# Altium integrated library BSPO.IntLib: 236 symbols (part 2 of 2)

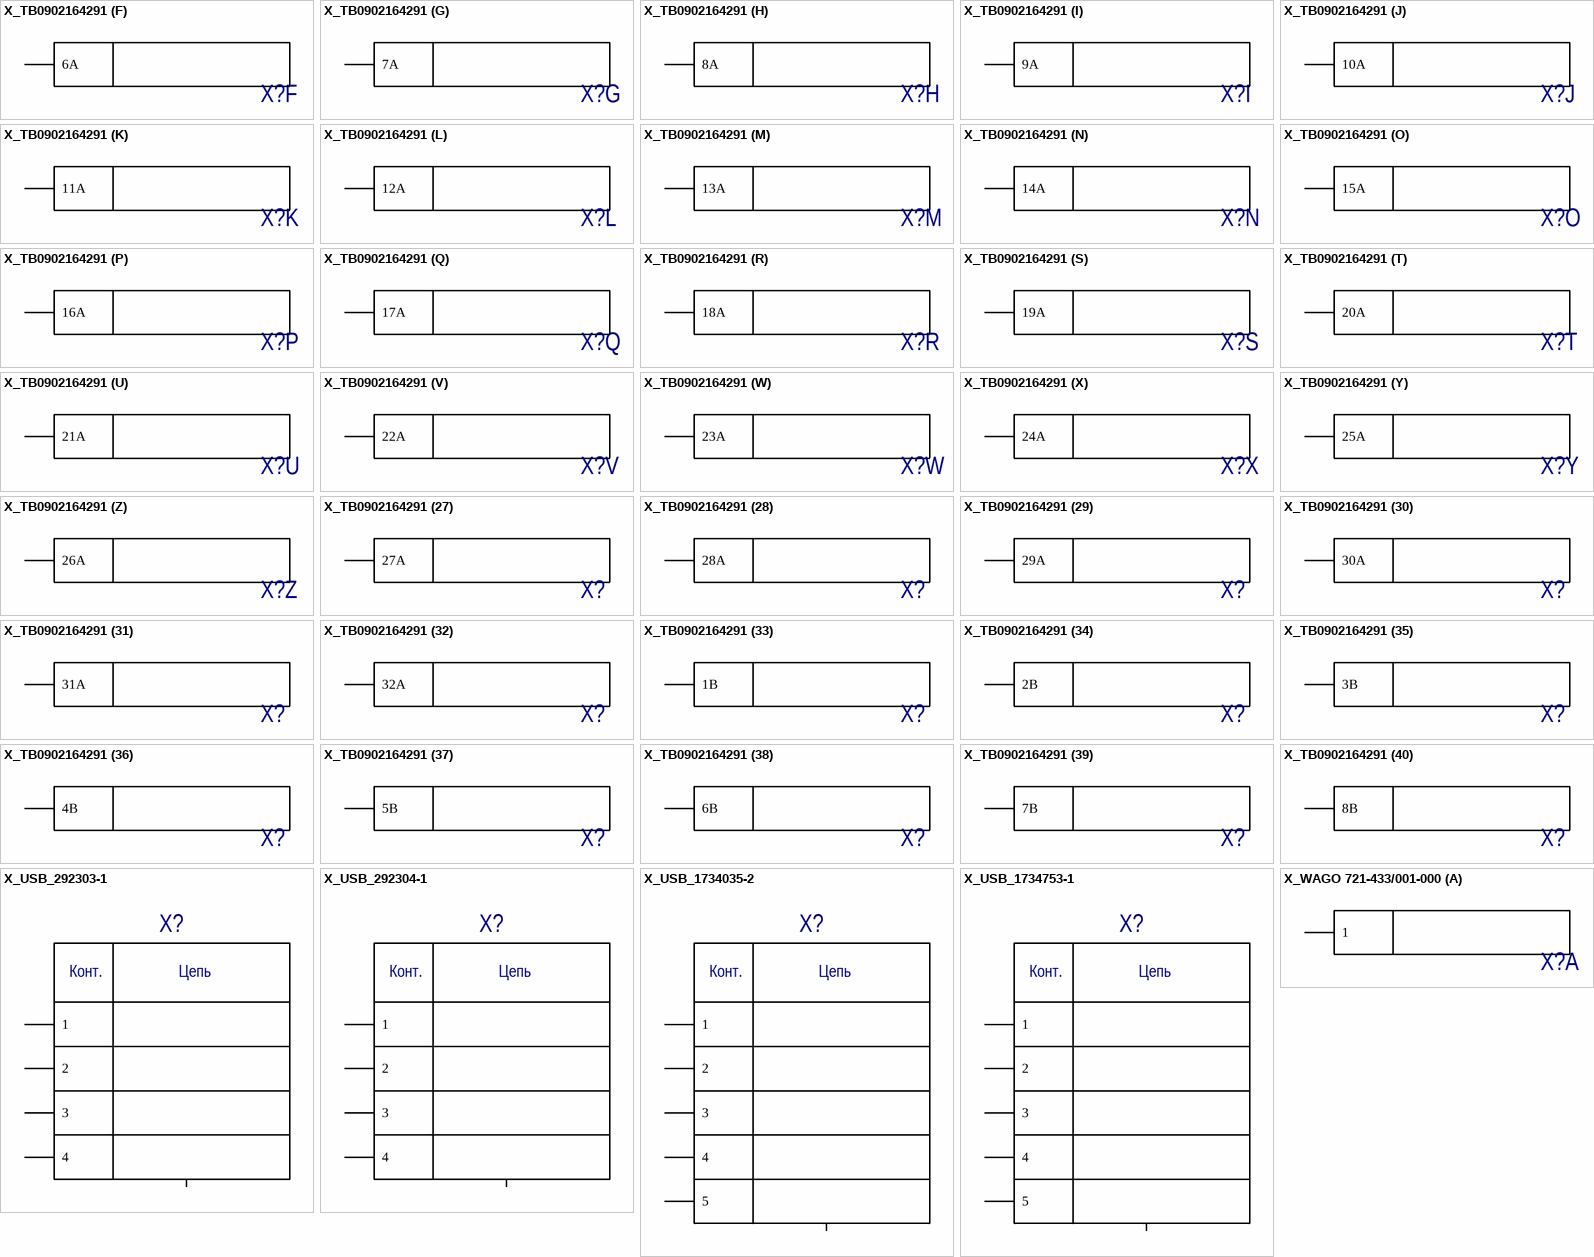
[diagram p23: symbols X_TB0902164291 to X_WAGO 721-433/001-000]

## X_TB0902164291
designator X?  (value not drawn)
Value: *
footprint DIN41612_64R_MAIL_X_TB0902164291(Primary)
part A pins: 1A
part B pins: 2A
part C pins: 3A
part D pins: 4A
part E pins: 5A
part F pins: 6A
part G pins: 7A
part H pins: 8A
part I pins: 9A
part J pins: 10A
part K pins: 11A
part L pins: 12A
part M pins: 13A
part N pins: 14A
part O pins: 15A
part P pins: 16A
part Q pins: 17A
part R pins: 18A
part S pins: 19A
part T pins: 20A
part U pins: 21A
part V pins: 22A
part W pins: 23A
part X pins: 24A
part Y pins: 25A
part Z pins: 26A
part 27 pins: 27A
part 28 pins: 28A
part 29 pins: 29A
part 30 pins: 30A
part 31 pins: 31A
part 32 pins: 32A
part 33 pins: 1B
part 34 pins: 2B
part 35 pins: 3B
part 36 pins: 4B
part 37 pins: 5B
part 38 pins: 6B
part 39 pins: 7B
part 40 pins: 8B
part 41 pins: 9B
part 42 pins: 10B
part 43 pins: 11B
part 44 pins: 12B
part 45 pins: 13B
part 46 pins: 14B
part 47 pins: 15B
part 48 pins: 16B
part 49 pins: 17B
part 50 pins: 18B
part 51 pins: 19B
part 52 pins: 20B
part 53 pins: 21B
part 54 pins: 22B
part 55 pins: 23B
part 56 pins: 24B
part 57 pins: 25B
part 58 pins: 26B
part 59 pins: 27B
part 60 pins: 28B
part 61 pins: 29B
part 62 pins: 30B
part 63 pins: 31B
part 64 pins: 32B
part 65 text: Конт.; Цепь

## X_USB_292303-1
designator X?  (value not drawn)
Value: *
footprint USB_TYPE_A
pins: 1, 2, 3, 4, 5
text: Конт.; Цепь

## X_USB_292304-1
designator X?  (value not drawn)
Value: *
footprint USB_TYPE_B
pins: 1, 2, 3, 4, 5, 6 5 hidden
text: Конт.; Цепь

## X_USB_1734035-2
designator X?  (value not drawn)
Value: *
footprint USB_1734753-1_3
pins: 1, 2, 3, 4, 5, 6, 7 6 hidden, 8 6 hidden
text: Конт.; Цепь

## X_USB_1734753-1
designator X?  (value not drawn)
Value: *
footprint USB_1734753-1_3
pins: 1, 2, 3, 4, 5, 6, 7 6 hidden, 8 6 hidden
text: Конт.; Цепь

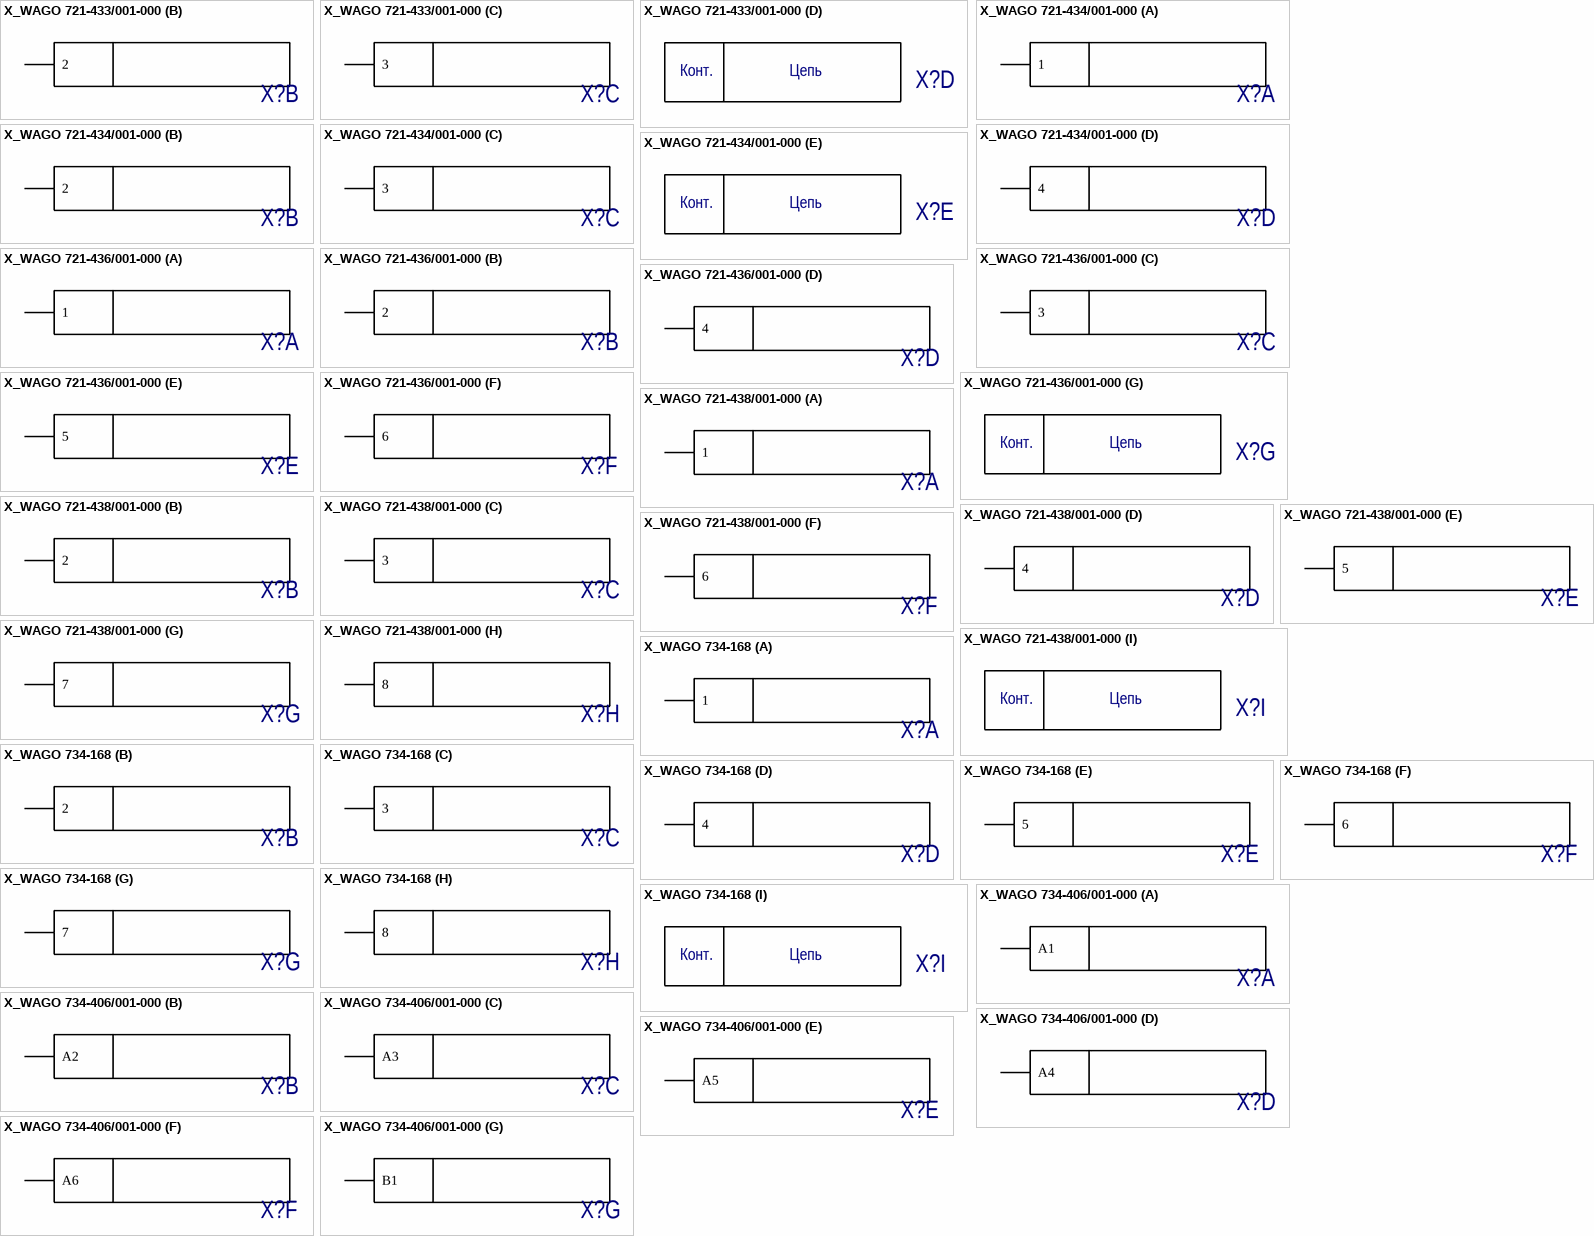
[diagram p24: symbols X_WAGO 721-433/001-000 to X_WAGO 734-406/001-000]

## X_WAGO 721-433/001-000
designator X?  (value not drawn)
Value: *
footprint WAGO 721-433/001-000
part A pins: 1
part B pins: 2
part C pins: 3
part D text: Конт.; Цепь

## X_WAGO 721-434/001-000
designator X?  (value not drawn)
Value: *
footprint WAGO 721-434/001-000
part A pins: 1
part B pins: 2
part C pins: 3
part D pins: 4
part E text: Конт.; Цепь

## X_WAGO 721-436/001-000
designator X?  (value not drawn)
Value: *
footprint WAGO 721-436/001-000
part A pins: 1
part B pins: 2
part C pins: 3
part D pins: 4
part E pins: 5
part F pins: 6
part G text: Конт.; Цепь

## X_WAGO 721-438/001-000
designator X?  (value not drawn)
Value: *
footprint WAGO 721-438/001-000
part A pins: 1
part B pins: 2
part C pins: 3
part D pins: 4
part E pins: 5
part F pins: 6
part G pins: 7
part H pins: 8
part I text: Конт.; Цепь

## X_WAGO 734-168
designator X?  (value not drawn)
Value: *
footprint WAGO 734-168
part A pins: 1
part B pins: 2
part C pins: 3
part D pins: 4
part E pins: 5
part F pins: 6
part G pins: 7
part H pins: 8
part I text: Конт.; Цепь

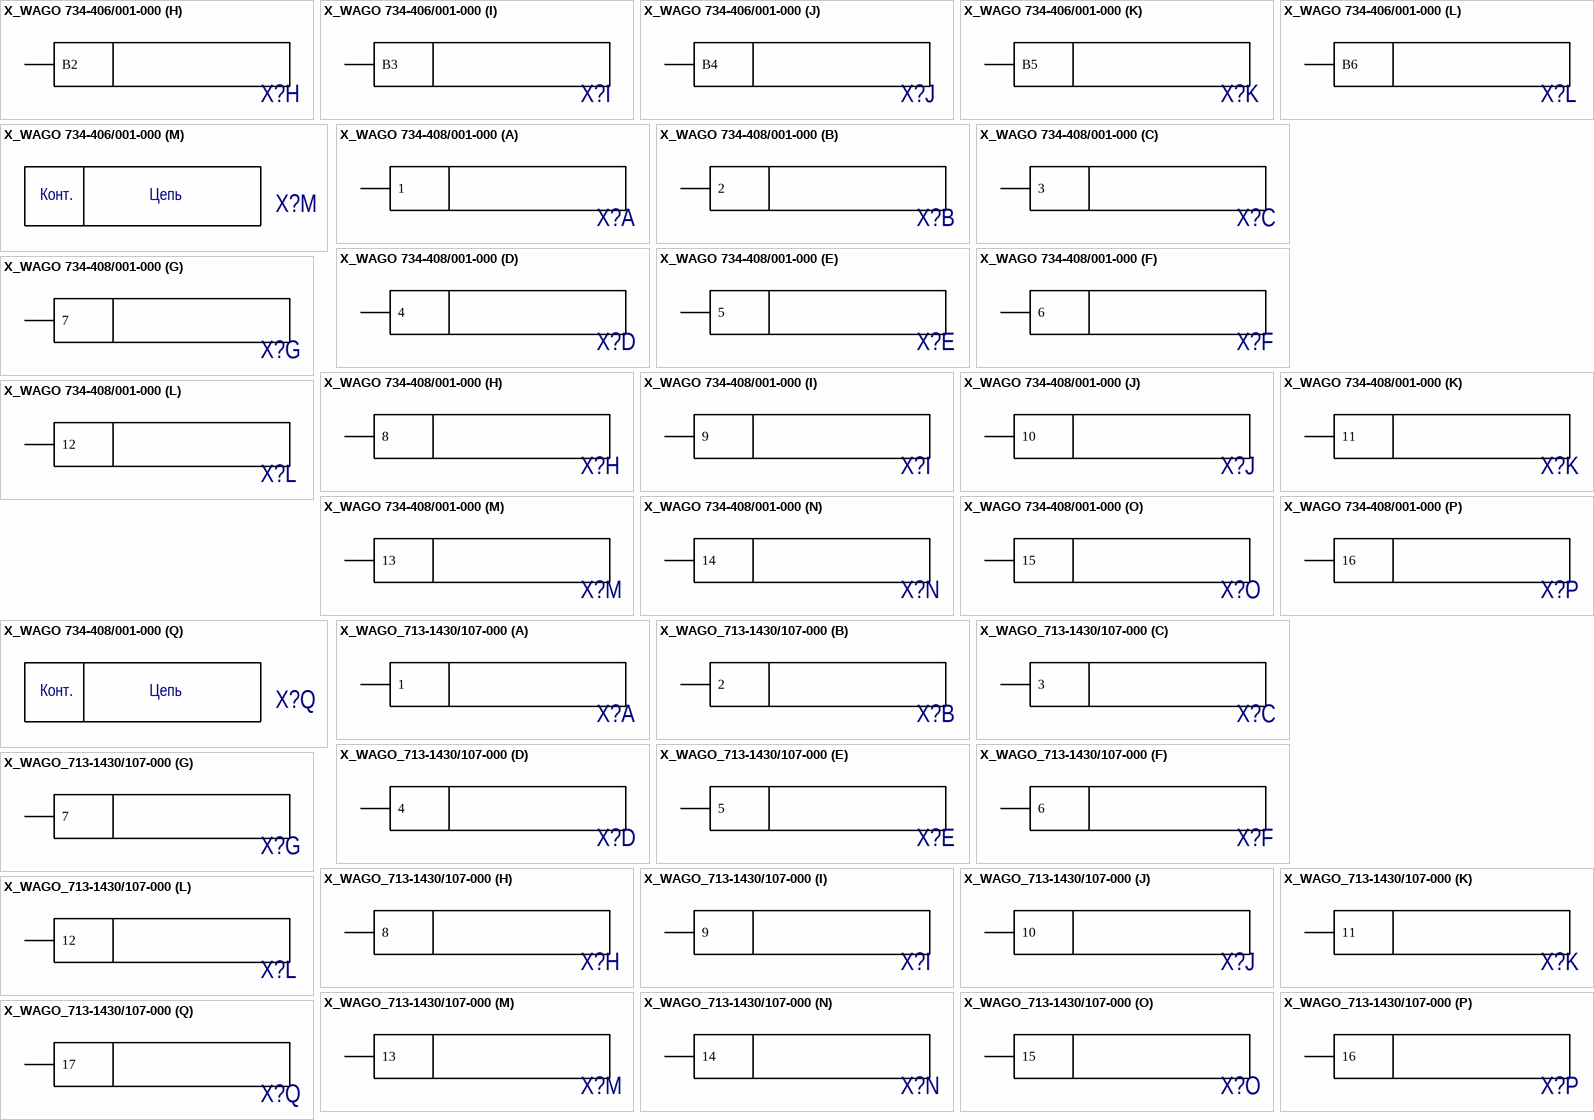
[diagram p25: symbols X_WAGO 734-406/001-000 to X_WAGO_713-1430/107-000]

## X_WAGO 734-406/001-000
designator X?  (value not drawn)
Value: *
footprint WAGO 734-406/001-000
part A pins: 1 A1
part B pins: 2 A2
part C pins: 3 A3
part D pins: 4 A4
part E pins: 5 A5
part F pins: 6 A6
part G pins: 7 B1
part H pins: 8 B2
part I pins: 9 B3
part J pins: 10 B4
part K pins: 11 B5
part L pins: 12 B6
part M text: Конт.; Цепь

## X_WAGO 734-408/001-000
designator X?  (value not drawn)
Value: *
footprint WAGO 734-408/001-000
part A pins: 1
part B pins: 2
part C pins: 3
part D pins: 4
part E pins: 5
part F pins: 6
part G pins: 7
part H pins: 8
part I pins: 9
part J pins: 10
part K pins: 11
part L pins: 12
part M pins: 13
part N pins: 14
part O pins: 15
part P pins: 16
part Q text: Конт.; Цепь

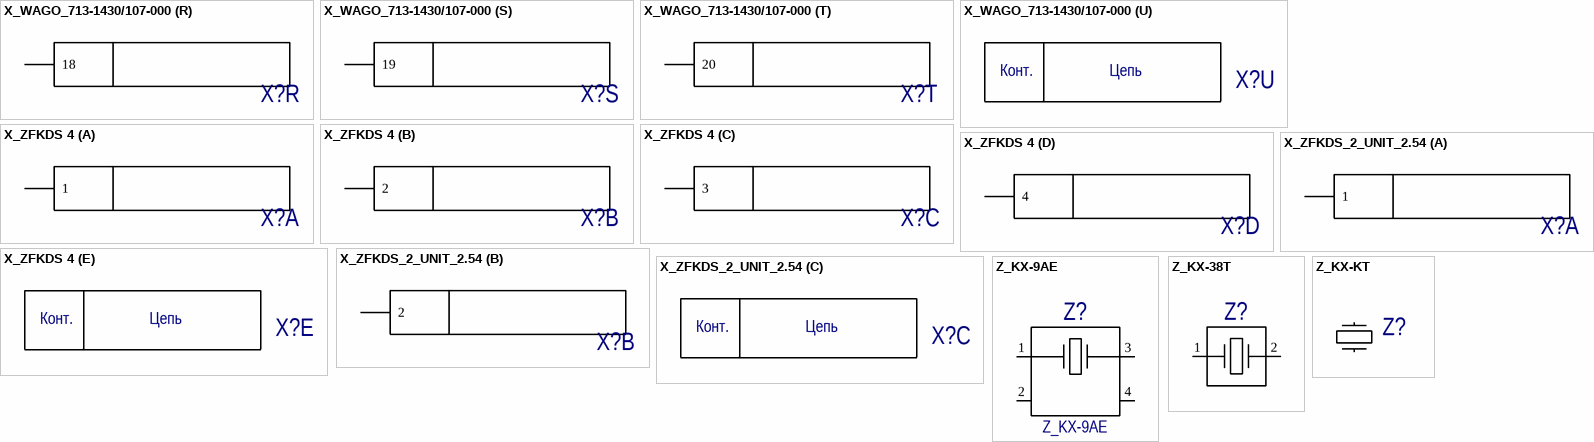
[diagram p26: symbols X_WAGO_713-1430/107-000 to Z_KX-KT]

## X_WAGO_713-1430/107-000
designator X?  (value not drawn)
Value: *
footprint WAGO 713-1430/107-000
part A pins: 1
part B pins: 2
part C pins: 3
part D pins: 4
part E pins: 5
part F pins: 6
part G pins: 7
part H pins: 8
part I pins: 9
part J pins: 10
part K pins: 11
part L pins: 12
part M pins: 13
part N pins: 14
part O pins: 15
part P pins: 16
part Q pins: 17
part R pins: 18
part S pins: 19
part T pins: 20
part U text: Конт.; Цепь

## X_ZFKDS 4
designator X?  (value not drawn)
Value: *
footprint ZFKDS_4
part A pins: 1
part B pins: 2
part C pins: 3
part D pins: 4
part E text: Конт.; Цепь

## X_ZFKDS_2_UNIT_2.54
designator X?  (value not drawn)
Value: *
footprint ZFKDS_2_UNIT
part A pins: 1
part B pins: 2
part C text: Конт.; Цепь

## Z_KX-9AE
designator Z?
Value: *
footprint QSMD5.0X3.2X1.0
pins: 1 Z1, 2 CASE, 3 Z2, 4 CASE

## Z_KX-38T
designator Z?  (value not drawn)
Value: *
footprint KX-38
pins: 1 Z1, 2 Z2, 3 CASE

## Z_KX-KT
designator Z?  (value not drawn)
Value: {Value}
footprint KX-KT
pins: 1, 2